# Altium schematic symbol library Voltage References.SchLib: 1 symbol
Pins are listed as number, name and electrical type; pins without a type are passive.

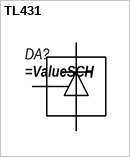
[diagram p0: symbol TL431]

## TL431
designator DA?
pins: 1, 2, 3